# EAGLE library part TMCS1107 (library FlashPCB_Sensors)
TMCS1107 - SENSOR CURRENT HALL Technical Specifications: Current Sensor ±45A 1 Channel Hall Effect Bidirectional 8-SOIC (0.154", 3.90mm Width) Sensor Type: Hall Effect Output Type: Ratiometric, Voltage Total Error: +/- 3% Operating Voltage: 3V ~ 5.5V Operating Current (MAX): 6mA Sensetivity Options: 50mV/A, 100 mV/A, 200 mV/A, 400 mV/A Component Search: TMCS1107 <[FLASHPCB URL]> Datasheet: TMCS1107-Q1 AEC-Q100, 3% Basic Isolation Hall-Effect Current Sensor With ±420-V Working Voltage datasheet <https://www.ti.com/lit/ds/symlink/tmcs1107-q1.pdf?HQS=dis-dk-null-digikeymode-dsf-pf-null-wwe&ts=1666189055859>
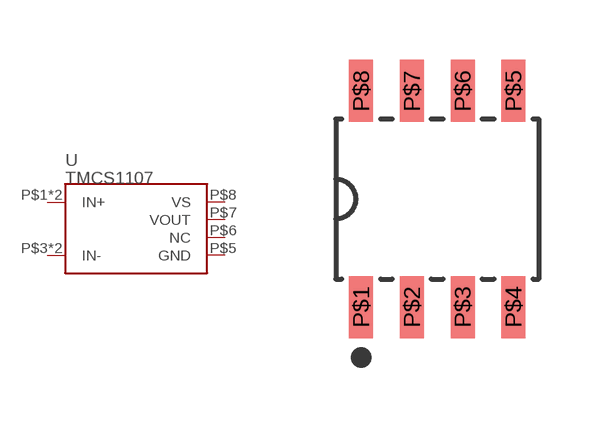
[diagram p27: symbol with the pads of SOIC-8-150MIL-3.9MM; footprint SOIC-8-150MIL-3.9MM]

Designator prefix U

## TMCS1107SOIC-8  [SOIC-8-150MIL-3.9MM]
P$1  IN+
P$2  IN+
P$3  IN-
P$4  IN-
P$5  GND
P$6  NC
P$7  VOUT
P$8  VS

## Footprint SOIC-8-150MIL-3.9MM (pad centres in mm)
smd 0.6 x 1.55: P$1 -1.905,-2.7; P$2 -0.635,-2.7; P$3 0.635,-2.7; P$4 1.905,-2.7; P$5 1.905,2.7; P$6 0.635,2.7; P$7 -0.635,2.7; P$8 -1.905,2.7